# EAGLE library part B12B-XH-A_LF__SN_ (library B12B-XH-A_LF__SN_)
CONN HEADER XH TOP 12POS 2.5MM Source: Datasheet <http://www.jst-mfg.com/product/pdf/eng/eXH.pdf>
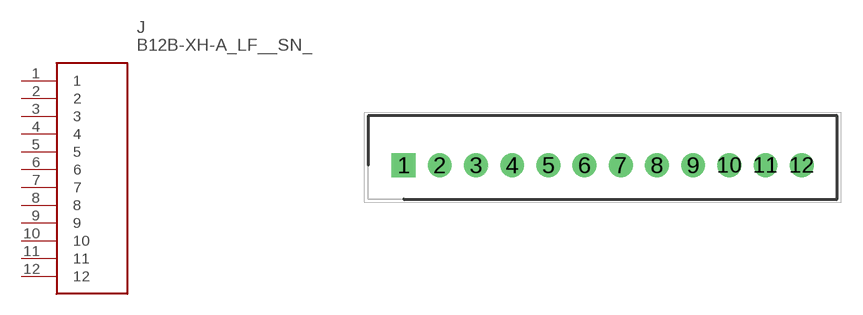
[diagram p0: symbol with the pads of SHDR12W64P0X250_1X12_3240X575X; footprint SHDR12W64P0X250_1X12_3240X575X]

Designator prefix J

## B12B-XH-A_LF__SN_ (Description: CONN HEADER XH TOP 12POS 2.5MM; Height: 7mm; Manufacturer_Name: JST (JAPAN SOLDERLESS TERMINALS); Manufacturer_Part_Number: B12B-XH-A(LF)(SN); Mouser_Part_Number: 306-B12BXHALFSN; Mouser_Price-Stock: https://www.mouser.co.uk/ProductDetail/JST-Commercial/B12B-XH-ALFSN?qs=cdbOS8ANM9DlDe0nA7fEWA%3D%3D)  [SHDR12W64P0X250_1X12_3240X575X]
1  1
2  2
3  3
4  4
5  5
6  6
7  7
8  8
9  9
10  10
11  11
12  12

## Footprint SHDR12W64P0X250_1X12_3240X575X (pad centres in mm)
B12B-XH-A(LF)(SN)_2020
drill 1.1 pad 1.65 square: 1 0,0
drill 1.1 pad 1.65: 2 2.5,0; 3 5,0; 4 7.5,0; 5 10,0; 6 12.5,0; 7 15,0; 8 17.5,0; 9 20,0; 10 22.5,0; 11 25,0; 12 27.5,0